# EAGLE library part CD4051BEE4 (library CD4051BEE4)
Multiplexer 8pin ADC/DAC
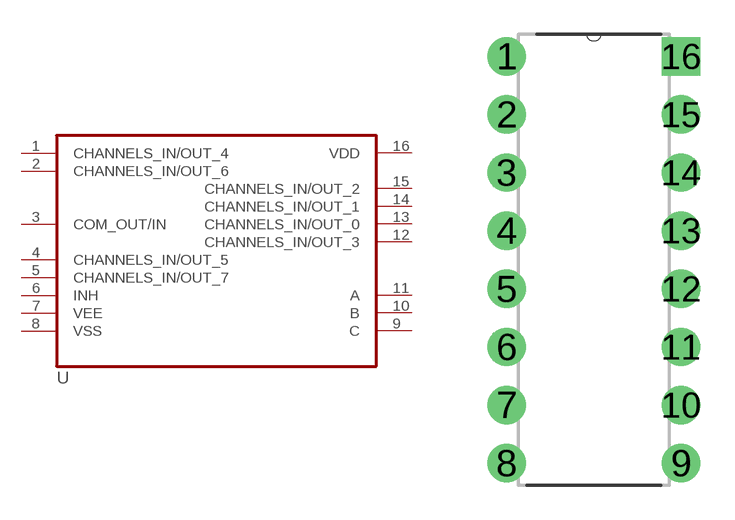
[diagram p0: symbol with the pads of CD4051BEE4DIP; footprint CD4051BEE4DIP]

Designator prefix -

## CD4051BEE4  [CD4051BEE4DIP]
1  CHANNELS_IN/OUT_4
2  CHANNELS_IN/OUT_6
3  COM_OUT/IN
4  CHANNELS_IN/OUT_5
5  CHANNELS_IN/OUT_7
6  INH  in
7  VEE  pwr
8  VSS  pwr
9  C  in
10  B  in
11  A  in
12  CHANNELS_IN/OUT_3
13  CHANNELS_IN/OUT_0
14  CHANNELS_IN/OUT_1
15  CHANNELS_IN/OUT_2
16  VDD  pwr

## Footprint CD4051BEE4DIP (pad centres in mm)
drill 1.118: 1 -3.81,8.89; 2 -3.81,6.35; 3 -3.81,3.81; 4 -3.81,1.27; 5 -3.81,-1.27; 6 -3.81,-3.81; 7 -3.81,-6.35; 8 -3.81,-8.89; 9 3.81,-8.89; 10 3.81,-6.35; 11 3.81,-3.81; 12 3.81,-1.27; 13 3.81,1.27; 14 3.81,3.81; 15 3.81,6.35
drill 1.118 square: 16 3.81,8.89